# Altium integrated library OTHERTEST.IntLib: 66 symbols
Pins are listed as number, name and electrical type; pins without a type are passive.

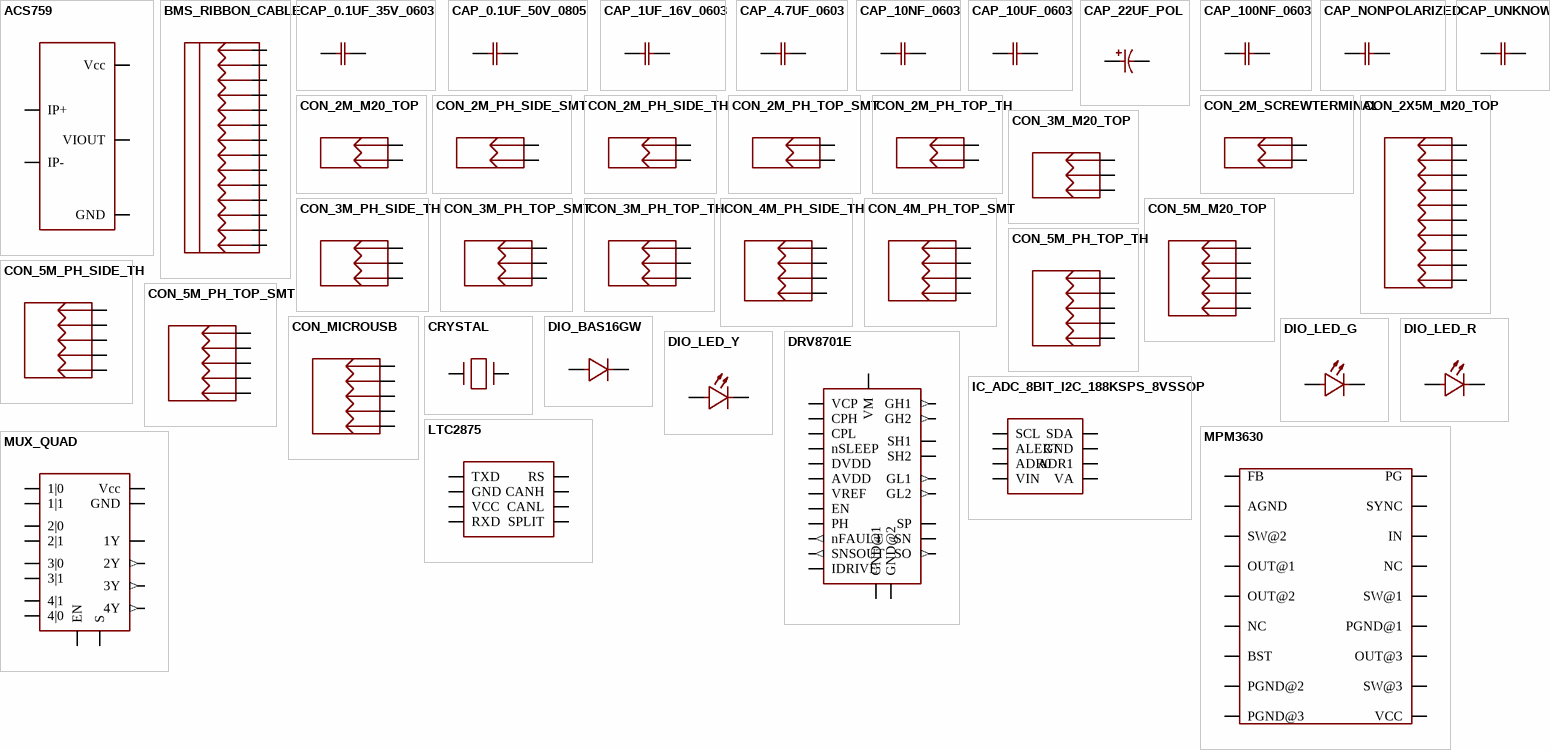
[diagram p0: symbols ACS759 to MUX_QUAD]

## ACS759
designator sensor?
GateName_1: PART_1; SymbolName_1: ACS759; LibraryName: OTHERTEST; DeviceSetName: ACS759; Package: ACS759; DATASHEET: www.allegromicro.com/~/media/Files/Datasheets/ACS759-Datasheet.ashx
footprint ACS759
pins: 1 Vcc, 2 GND, 3 VIOUT, 4 IP+, 5 IP-

## BMS_RIBBON_CABLE
designator ?
GateName_1: PART_1; SymbolName_1: BMS_RIBBON_CABLE; LibraryName: OTHERTEST; DeviceSetName: BMS_RIBBON_CABLE
pins: ?1 1, ?2 2, ?3 3, ?4 4, ?5 5, ?6 6, ?7 7, ?8 8, ?9 9, ?10 10, ?11 11, ?12 12, ?13 13, ?14 14

## CAP_0.1UF_35V_0603
designator C?
MANUFACTURER: Taiyo Yuden; MPN: GMK107B7104KAHT; GateName_1: PART_1; SymbolName_1: CAP_NONPOLARIZED; DeviceSetName: CAP_0.1UF_35V_0603; DESCRIPTION: Non-polarized; VOLTAGE: 35V; LibraryName: OTHERTEST; Package: CAP_0603_5
footprint CAP_0603_5
pins: 1, 2

## CAP_0.1UF_50V_0805
designator C?
MANUFACTURER: AVX Corporation; MPN: 08055F104K4T2A; GateName_1: PART_1; SymbolName_1: CAP_NONPOLARIZED; DeviceSetName: CAP_0.1UF_50V_0805; DESCRIPTION: Non-polarized; VOLTAGE: 50V; LibraryName: OTHERTEST; Package: CAP_0805; DATASHEET: https://www.digikey.ca/product-detail/en/avx-corporation/08055F104K4T2A/478-3614-1-ND/1024967
footprint CAP_0805
pins: 1, 2

## CAP_1UF_16V_0603
designator C?
MANUFACTURER: Yageo; MPN: CC0603ZRY5V7BB105; GateName_1: PART_1; SymbolName_1: CAP_NONPOLARIZED; DeviceSetName: CAP_1UF_16V_0603; DESCRIPTION: Non-polarized; LibraryName: OTHERTEST; Package: CAP_0603
footprint CAP_0603
pins: 1, 2

## CAP_4.7UF_0603
designator C?
MANUFACTURER: Yageo; MPN: CC0603KRX5R5BB475; GateName_1: PART_1; SymbolName_1: CAP_NONPOLARIZED; DeviceSetName: CAP_4.7UF_0603; DESCRIPTION: Non-polarized; LibraryName: OTHERTEST; Package: CAP_0603
footprint CAP_0603
pins: 1, 2

## CAP_10NF_0603
designator C?
MANUFACTURER: Yageo; MPN: CC0402KRX7R6BB103; GateName_1: PART_1; SymbolName_1: CAP_NONPOLARIZED; DeviceSetName: CAP_10NF_0603; DESCRIPTION: Non-polarized; LibraryName: OTHERTEST; Package: CAP_0603
footprint CAP_0603
pins: 1, 2

## CAP_10UF_0603
designator C?
MANUFACTURER: Yageo; GateName_1: PART_1; SymbolName_1: CAP_NONPOLARIZED; DeviceSetName: CAP_10UF_0603; DESCRIPTION: Non-polarized; LibraryName: OTHERTEST; Package: CAP_0603
footprint CAP_0603
pins: 1, 2

## CAP_22UF_POL
designator C?
MANUFACTURER: Wurth Electronics Inc; MPN: 860020672011; GateName_1: PART_1; SymbolName_1: CAP_22UF_POL; DESCRIPTION: Polarized; ATTR_1: Electrolytic; LibraryName: OTHERTEST; DeviceSetName: CAP_22UF_POL; Package: CAPPR-2/4h6.8; DATASHEET: http://katalog.we-online.de/pbs/datasheet/860020672011.pdf
footprint CAPPR-2/4h6.8
pins: 1 MINUS, 2 PLUS

## CAP_100NF_0603
designator C?
MANUFACTURER: Yageo; MPN: CC0603KRX7R7BB104; GateName_1: PART_1; SymbolName_1: CAP_NONPOLARIZED; DeviceSetName: CAP_100NF_0603; DESCRIPTION: Non-polarized; LibraryName: OTHERTEST; Package: CAP_0603
footprint CAP_0603
pins: 1, 2

## CAP_NONPOLARIZED
designator C?
GateName_1: PART_1; SymbolName_1: CAP_NONPOLARIZED; DESCRIPTION: Non-polarized; LibraryName: OTHERTEST; DeviceSetName: CAP_NONPOLARIZED
pins: ?1 1, ?2 2

## CAP_UNKNOWN
designator C?
GateName_1: PART_1; SymbolName_1: CAP_NONPOLARIZED; DeviceSetName: CAP_UNKNOWN; DESCRIPTION: Non-polarized; LibraryName: OTHERTEST
pins: ?1 1, ?2 2

## CON_2M_M20_TOP
designator J?
MANUFACTURER: Harwin; GateName_1: PART_1; SymbolName_1: CON_2M_PH_TOP_TH; DeviceSetName: CON_2M_M20_TOP; MGN: M20-9990546; LibraryName: OTHERTEST; Package: HDRF-1x2T/2.54/6x3; DATASHEET: https://cdn.harwin.com/pdfs/M20-999.pdf
footprint HDRF-1x2T/2.54/6x3
pins: 1, 2

## CON_2M_PH_SIDE_SMT
designator J?
MANUFACTURER: JST; GateName_1: PART_1; SymbolName_1: CON_2M_PH_TOP_TH; DeviceSetName: CON_2M_PH_SIDE_SMT; MGN: S2B-PH-SM4-TB; LibraryName: OTHERTEST; Package: JST-S2B-SM4-TB; DATASHEET: http://www.jst-mfg.com/product/pdf/eng/ePH.pdf
footprint JST-S2B-SM4-TB
pins: 1, 2

## CON_2M_PH_SIDE_TH
designator J?
MANUFACTURER: JST; GateName_1: PART_1; SymbolName_1: CON_2M_PH_TOP_TH; DeviceSetName: CON_2M_PH_SIDE_TH; MGN: S2B-PH-K-S; LibraryName: OTHERTEST; Package: JST-S2B-PHSK; DATASHEET: http://www.jst-mfg.com/product/pdf/eng/ePH.pdf
footprint JST-S2B-PHSK
pins: 1, 2

## CON_2M_PH_TOP_SMT
designator J?
MANUFACTURER: JST; GateName_1: PART_1; SymbolName_1: CON_2M_PH_TOP_TH; DeviceSetName: CON_2M_PH_TOP_SMT; MGN: B2B-PH-SM4-TB; LibraryName: OTHERTEST; Package: JST-B2B-SM4-TB; DATASHEET: http://www.jst-mfg.com/product/pdf/eng/ePH.pdf
footprint JST-B2B-SM4-TB
pins: 1, 2

## CON_2M_PH_TOP_TH
designator J?
MANUFACTURER: JST; GateName_1: PART_1; SymbolName_1: CON_2M_PH_TOP_TH; MGN: B2B-PH-K-S; LibraryName: OTHERTEST; DeviceSetName: CON_2M_PH_TOP_TH; Package: JST-B2B-PHSK; DATASHEET: http://www.jst-mfg.com/product/pdf/eng/ePH.pdf
footprint JST-B2B-PHSK
pins: 1, 2

## CON_2M_SCREWTERMINAL
designator J?
MANUFACTURER: On Shore Technology Inc; GateName_1: PART_1; SymbolName_1: CON_2M_PH_TOP_TH; DeviceSetName: CON_2M_SCREWTERMINAL; MGN: OSTYK51102030; MAX CURRENT: 30A; LibraryName: OTHERTEST; Package: OSTYK51102030; DATASHEET: http://www.on-shore.com/wp-content/uploads/2015/09/ostyk511xx030.pdf
footprint OSTYK51102030
pins: 1, 2

## CON_2X5M_M20_TOP
designator J?
GateName_1: PART_1; SymbolName_1: CON_2X5M_M20_TOP; LibraryName: OTHERTEST; DeviceSetName: CON_2X5M_M20_TOP; Package: HDRF-2x5T/2.54x2.54/13x5
footprint HDRF-2x5T/2.54x2.54/13x5
pins: 1, 2, 3, 4, 5, 6, 7, 8, 9, 10

## CON_3M_M20_TOP
designator J?
MANUFACTURER: Harwin; GateName_1: PART_1; SymbolName_1: CON_3M_PH_TOP_TH; DeviceSetName: CON_3M_M20_TOP; MGN: M20-9990546; LibraryName: OTHERTEST; Package: HDRF-1x3T/2.54/8x3; DATASHEET: https://cdn.harwin.com/pdfs/M20-999.pdf
footprint HDRF-1x3T/2.54/8x3
pins: 1, 2, 3

## CON_3M_PH_SIDE_TH
designator J?
MANUFACTURER: JST; GateName_1: PART_1; SymbolName_1: CON_3M_PH_TOP_TH; DeviceSetName: CON_3M_PH_SIDE_TH; MGN: S3B-PH-K-S; LibraryName: OTHERTEST; Package: JST-S3B-PHSK; DATASHEET: http://www.jst-mfg.com/product/pdf/eng/ePH.pdf
footprint JST-S3B-PHSK
pins: 1, 2, 3

## CON_3M_PH_TOP_SMT
designator J?
MANUFACTURER: JST; GateName_1: PART_1; SymbolName_1: CON_3M_PH_TOP_TH; DeviceSetName: CON_3M_PH_TOP_SMT; MGN: B3B-PH-SM4-TB; LibraryName: OTHERTEST; Package: JST-B3B-SM4-TB; DATASHEET: http://www.jst-mfg.com/product/pdf/eng/ePH.pdf
footprint JST-B3B-SM4-TB
pins: 1, 2, 3

## CON_3M_PH_TOP_TH
designator J?
MANUFACTURER: JST; GateName_1: PART_1; SymbolName_1: CON_3M_PH_TOP_TH; MGN: B3B-PH-K-S; LibraryName: OTHERTEST; DeviceSetName: CON_3M_PH_TOP_TH; Package: JST-B3B-PHSK; DATASHEET: http://www.jst-mfg.com/product/pdf/eng/ePH.pdf
footprint JST-B3B-PHSK
pins: 1, 2, 3

## CON_4M_PH_SIDE_TH
designator J?
MANUFACTURER: JST; GateName_1: PART_1; SymbolName_1: CON_4M_PH_TOP_SMT; DeviceSetName: CON_4M_PH_SIDE_TH; MGN: S4B-PH-K-S; LibraryName: OTHERTEST; Package: JST-S4B-PHSK; DATASHEET: http://www.jst-mfg.com/product/pdf/eng/ePH.pdf
footprint JST-S4B-PHSK
pins: 1, 2, 3, 4

## CON_4M_PH_TOP_SMT
designator J?
MANUFACTURER: JST; GateName_1: PART_1; SymbolName_1: CON_4M_PH_TOP_SMT; MGN: B4B-PH-SM4-TB; LibraryName: OTHERTEST; DeviceSetName: CON_4M_PH_TOP_SMT; Package: JST-B4B-SM4-TB; DATASHEET: http://www.jst-mfg.com/product/pdf/eng/ePH.pdf
footprint JST-B4B-SM4-TB
pins: 1, 2, 3, 4

## CON_5M_M20_TOP
designator J?
MANUFACTURER: Harwin; GateName_1: PART_1; SymbolName_1: CON_5M_PH_TOP_TH; DeviceSetName: CON_5M_M20_TOP; MGN: M20-9990546; LibraryName: OTHERTEST; Package: HDRF-1x5T/2.54/13x3; DATASHEET: https://cdn.harwin.com/pdfs/M20-999.pdf
footprint HDRF-1x5T/2.54/13x3
pins: 1, 2, 3, 4, 5

## CON_5M_PH_SIDE_TH
designator J?
MANUFACTURER: JST; GateName_1: PART_1; SymbolName_1: CON_5M_PH_TOP_TH; DeviceSetName: CON_5M_PH_SIDE_TH; MGN: S5B-PH-K-S; LibraryName: OTHERTEST; Package: JST-S5B-PHSK; DATASHEET: http://www.jst-mfg.com/product/pdf/eng/ePH.pdf
footprint JST-S5B-PHSK
pins: 1, 2, 3, 4, 5

## CON_5M_PH_TOP_SMT
designator J?
MANUFACTURER: JST; GateName_1: PART_1; SymbolName_1: CON_5M_PH_TOP_TH; DeviceSetName: CON_5M_PH_TOP_SMT; MGN: B5B-PH-SM4-TB; LibraryName: OTHERTEST; Package: JST-B5B-SM4-TB; DATASHEET: http://www.jst-mfg.com/product/pdf/eng/ePH.pdf
footprint JST-B5B-SM4-TB
pins: 1, 2, 3, 4, 5

## CON_5M_PH_TOP_TH
designator J?
MANUFACTURER: JST; GateName_1: PART_1; SymbolName_1: CON_5M_PH_TOP_TH; MGN: B5B-PH-K-S; LibraryName: OTHERTEST; DeviceSetName: CON_5M_PH_TOP_TH; Package: JST-B5B-PHSK; DATASHEET: http://www.jst-mfg.com/product/pdf/eng/ePH.pdf
footprint JST-B5B-PHSK
pins: 1, 2, 3, 4, 5

## CON_MICROUSB
designator J?
MANUFACTURER: SODIAL; GateName_1: PART_1; SymbolName_1: CON_5M_PH_TOP_TH; DeviceSetName: CON_MICROUSB; LibraryName: OTHERTEST; Package: ZX62-B-5P
footprint ZX62-B-5P
pins: 1, 2, 3, 4, 5

## CRYSTAL
designator Y?
GateName_1: PART_1; SymbolName_1: CRYSTAL; LibraryName: OTHERTEST; DeviceSetName: CRYSTAL; Package: Crystal(CX2520DB); DESCRIPTION: Crystal
footprint Crystal(CX2520DB)
pins: 2, 3 1

## DIO_BAS16GW
designator D?
MANUFACTURER: Nexperia; MPN: BAS16GW; GateName_1: PART_1; SymbolName_1: DIO_BAS16GW; LibraryName: OTHERTEST; DeviceSetName: DIO_BAS16GW; Package: SOD-123; DATASHEET: https://assets.nexperia.com/documents/data-sheet/BAS16GW.pdf
footprint SOD-123
pins: 1 K, 2 A

## DIO_LED_G
designator D?
MANUFACTURER: OSRAM; MPN: LG R971-KN-1; GateName_1: PART_1; SymbolName_1: DIO_LED_R; DeviceSetName: DIO_LED_G; DESCRIPTION: LED; LibraryName: OTHERTEST; Package: RES_0805
footprint RES_0805
pins: 1 A, 2 K

## DIO_LED_R
designator D?
MANUFACTURER: OSRAM; MPN: LS R976-NR-1; GateName_1: PART_1; SymbolName_1: DIO_LED_R; DESCRIPTION: LED; LibraryName: OTHERTEST; DeviceSetName: DIO_LED_R; Package: RES_0805
footprint RES_0805
pins: 1 A, 2 K

## DIO_LED_Y
designator D?
MANUFACTURER: OSRAM; MPN: LY R976-PS-36; GateName_1: PART_1; SymbolName_1: DIO_LED_R; DeviceSetName: DIO_LED_Y; DESCRIPTION: LED; LibraryName: OTHERTEST; Package: RES_0805
footprint RES_0805
pins: 1 A, 2 K

## DRV8701E
designator U?
GateName_1: PART_1; SymbolName_1: DRV8701E; LibraryName: OTHERTEST; DeviceSetName: DRV8701E; Package: QFN-24RV/4x4x0.5
footprint QFN-24RV/4x4x0.5
pins: 1 VM (power), 2 VCP (power), 3 CPH (power), 4 CPL (power), 5 GND@1 (power), 6 VREF, 7 AVDD (power), 8 DVDD (power), 9 nFAULT (out), 10 SNSOUT (out), 11 SO (out), 12 IDRIVE, 13 nSLEEP, 14 EN, 15 PH, 16 GND@2 (power), 17 GH1 (out), 18 SH1, 19 GL1 (out), 20 SN, 21 SP, 22 GL2 (out), 23 SH2, 24 GH2 (out)

## IC_ADC_8BIT_I2C_188KSPS_8VSSOP
designator ?
GateName_1: PART_1; SymbolName_1: IC_ADC_8BIT_I2C_188KSPS_8VSSOP; LibraryName: OTHERTEST; DeviceSetName: IC_ADC_8BIT_I2C_188KSPS_8VSSOP; Package: IC_ADC_8BIT_I2C_188KSPS_8VSSOP
footprint IC_ADC_8BIT_I2C_188KSPS_8VSSOP
pins: 1 SCL, 2 ALERT, 3 ADR0, 4 VIN, 5 VA, 6 ADR1, 7 GND, 8 SDA

## LTC2875
designator U?
MANUFACTURER: Linear Technologies; GateName_1: PART_1; SymbolName_1: LTC2875; LibraryName: OTHERTEST; DeviceSetName: LTC2875; Package: LTC2875F
footprint LTC2875F
pins: 1 TXD, 2 GND, 3 VCC, 4 RXD, 5 SPLIT, 6 CANL, 7 CANH, 8 RS

## MPM3630
designator U?
MANUFACTURER: MPS; GateName_1: PART_1; SymbolName_1: MPM3630; LibraryName: OTHERTEST; DeviceSetName: MPM3630; Package: MPM3630; DATASHEET: https://www.monolithicpower.com/DesktopModules/DocumentManage/API/Document/GetDocument?id=4863
footprint MPM3630
pins: 1 FB, 2 VCC, 3 AGND, 4 SW@1, 5 SW@2, 6 SW@3, 7 OUT@1, 8 OUT@2, 9 OUT@3, 10 NC, 10 NC, 11 BST, 12 PGND@1, 13 PGND@2, 14 PGND@3, 16 IN, 17 SYNC, 18 PG

## MUX_QUAD
designator U?
MANUFACTURER: Nexperia; MPN: 74LVC157A; GateName_1: PART_1; SymbolName_1: MUX_QUAD; LibraryName: OTHERTEST; DeviceSetName: MUX_QUAD; Package: TSSOP-16; DATASHEET: https://assets.nexperia.com/documents/data-sheet/74LVC157A.pdf
footprint TSSOP-16
pins: 1 S, 2 1|0, 3 1|1, 4 1Y, 5 2|0, 6 2|1, 7 2Y (out), 8 GND (power), 9 3Y (out), 10 3|1, 11 3|0, 12 4Y (out), 13 4|1, 14 4|0, 15 EN, 16 Vcc (power)

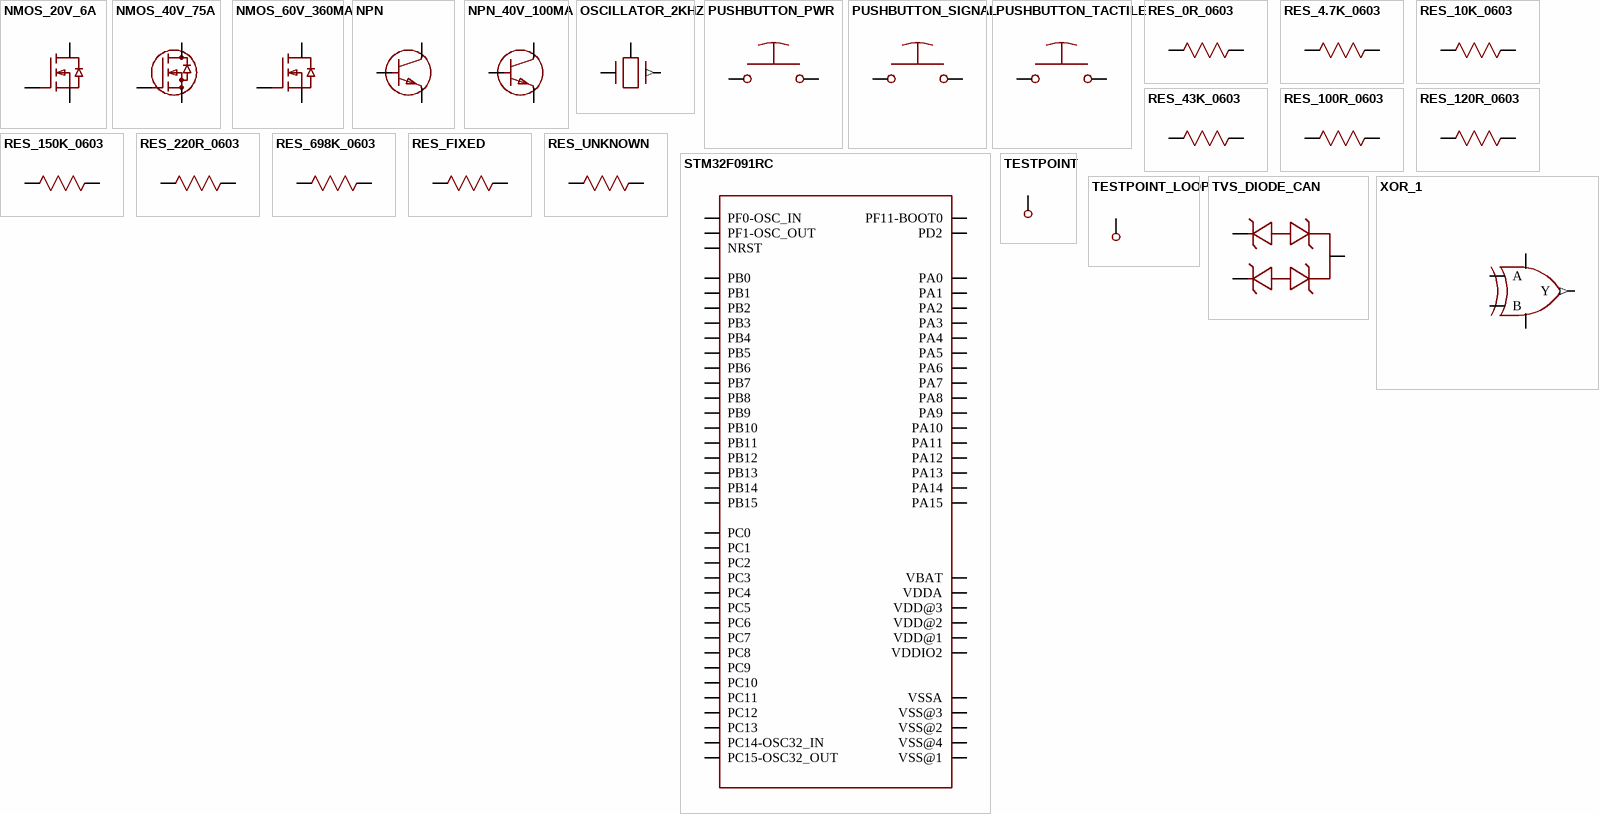
[diagram p1: symbols NMOS_20V_6A to XOR_1]

## NMOS_20V_6A
designator Q?
MANUFACTURER: Alpha & Omega; MPN: AO3420; GateName_1: PART_1; SymbolName_1: NMOS_20V_6A; DESCRIPTION: MOSFET; ATTR_1: Enhancement Mode; ATTR_2: N-Channel; ATTR_3: Single-Gate; ATTR_4: with Diode; LibraryName: OTHERTEST; DeviceSetName: NMOS_20V_6A; Package: AO3420_SOT23; DATASHEET: http://aosmd.com/res/data_sheets/AO3420.pdf
footprint AO3420_SOT23
pins: 1 G, 2 S, 3 D

## NMOS_40V_75A
designator Q?
MANUFACTURER: Nexperia; MPN: BUK768R1-40E; GateName_1: PART_1; SymbolName_1: NMOS_40V_75A; LibraryName: OTHERTEST; DeviceSetName: NMOS_40V_75A; Package: D2Pak_nexperia; DATASHEET: https://assets.nexperia.com/documents/data-sheet/BUK765R3-40E.pdf
footprint D2Pak_nexperia
pins: 1 G, 2 D, 3 S

## NMOS_60V_360MA
designator Q?
MANUFACTURER: Nexperia; MPN: 2N7002P,215; GateName_1: PART_1; SymbolName_1: NMOS_20V_6A; DeviceSetName: NMOS_60V_360MA; DESCRIPTION: MOSFET; ATTR_1: Enhancement Mode; ATTR_2: N-Channel; ATTR_3: Single-Gate; ATTR_4: with Diode; LibraryName: OTHERTEST; Package: SOT23; DATASHEET: https://assets.nexperia.com/documents/data-sheet/2N7002P.pdf
footprint SOT23
pins: 1 G, 2 S, 3 D

## NONE
designator ?
GateName_1: PART_1; SymbolName_1: NONE; LibraryName: OTHERTEST; DeviceSetName: NONE

## NPN
designator Q?
GateName_1: PART_1; SymbolName_1: NPN; LibraryName: OTHERTEST; DeviceSetName: NPN; Package: SOT23
footprint SOT23
pins: 1 B, 2 E, 3 C

## NPN_40V_100MA
designator Q?
MANUFACTURER: Micro Commercial Co; MPN: MMBT3904-TP; GateName_1: PART_1; SymbolName_1: NPN; DeviceSetName: NPN_40V_100MA; LibraryName: OTHERTEST; Package: SOT23; DATASHEET: http://www.mccsemi.com/up_pdf/MMBT3904(SOT-23).pdf
footprint SOT23
pins: 1 B, 2 E, 3 C

## OSCILLATOR_2KHZ
designator Y?
MANUFACTURER: Microchip Technology; MPN: DSC6083CI2A-002K000; GateName_1: PART_1; SymbolName_1: OSCILLATOR_2KHZ; LibraryName: OTHERTEST; DeviceSetName: OSCILLATOR_2KHZ; Package: 4_lead_CDFN3225; DATASHEET: http://ww1.microchip.com/downloads/en/DeviceDoc/20005625B.pdf
footprint 4_lead_CDFN3225
pins: 1 OUT (out), 2 GND (power), 4 VDD (power)

## PUSHBUTTON_PWR
designator SW?
MANUFACTURER: TE; MPN: PTS645SK43SMTR92 LFS / PTS645SK43SMTR92 LFS / PTS645SK43SMTR92 LFS; GateName_1: PART_1; SymbolName_1: PUSHBUTTON_PWR; DESCRIPTION: Pushbutton; ATTR_1: Normally Open; LibraryName: OTHERTEST; DeviceSetName: PUSHBUTTON_PWR; Package: PUSHBUTTON_PWR_(FSM2JSMAA)
footprint PUSHBUTTON_PWR_(FSM2JSMAA)
pins: 1 C1, 4 C2

## PUSHBUTTON_SIGNAL
designator SW?
MANUFACTURER: C&K; MPN: KXT 311 LHS; GateName_1: PART_1; SymbolName_1: PUSHBUTTON_PWR; DeviceSetName: PUSHBUTTON_SIGNAL; DESCRIPTION: Pushbutton; ATTR_1: Normally Open; LibraryName: OTHERTEST; Package: PUSHBUTTON_SIGNAL_(KXT_311_LHS)
footprint PUSHBUTTON_SIGNAL_(KXT_311_LHS)
pins: 1 C1, 2 C2

## PUSHBUTTON_TACTILE
designator SW?
MANUFACTURER: C&K; MPN: RS-282G05A3-SM RT; GateName_1: PART_1; SymbolName_1: PUSHBUTTON_PWR; DeviceSetName: PUSHBUTTON_TACTILE; DESCRIPTION: Pushbutton; ATTR_1: Normally Open; LibraryName: OTHERTEST; Package: PUSHBUTTON_RECTANGLE
footprint PUSHBUTTON_RECTANGLE
pins: 1 C1, 2 C2

## RES_0R_0603
designator R?
MANUFACTURER: Yageo; MPN: RC0603JR-070RL; GateName_1: PART_1; SymbolName_1: RES_FIXED; DeviceSetName: RES_0R_0603; DESCRIPTION: Fixed Resistor; LibraryName: OTHERTEST; Package: RES_0603
footprint RES_0603
pins: 1, 2

## RES_4.7K_0603
designator R?
MANUFACTURER: Yageo; MPN: RC0603JR-074K7L; GateName_1: PART_1; SymbolName_1: RES_FIXED; DeviceSetName: RES_4.7K_0603; DESCRIPTION: Fixed Resistor; LibraryName: OTHERTEST; Package: RES_0603
footprint RES_0603
pins: 1, 2

## RES_10K_0603
designator R?
MANUFACTURER: Yageo; MPN: RC0603JR-0710KL; GateName_1: PART_1; SymbolName_1: RES_FIXED; DeviceSetName: RES_10K_0603; DESCRIPTION: Fixed Resistor; LibraryName: OTHERTEST; Package: RES_0603
footprint RES_0603
pins: 1, 2

## RES_43K_0603
designator R?
MANUFACTURER: Yageo; MPN: RC0603JR-0743KL; GateName_1: PART_1; SymbolName_1: RES_FIXED; DeviceSetName: RES_43K_0603; DESCRIPTION: Fixed Resistor; LibraryName: OTHERTEST; Package: RES_0603; DATASHEET: https://medhttp://www.yageo.com/documents/recent/PYu-RC_Group_51_RoHS_L_8.pdf
footprint RES_0603
pins: 1, 2

## RES_100R_0603
designator R?
MANUFACTURER: Yageo; MPN: RC0603FR-07100RL; GateName_1: PART_1; SymbolName_1: RES_FIXED; DeviceSetName: RES_100R_0603; DESCRIPTION: Fixed Resistor; LibraryName: OTHERTEST; Package: RES_0603
footprint RES_0603
pins: 1, 2

## RES_120R_0603
designator R?
MANUFACTURER: Yageo; MPN: RC0603JR-07120RL; GateName_1: PART_1; SymbolName_1: RES_FIXED; DeviceSetName: RES_120R_0603; DESCRIPTION: Fixed Resistor; LibraryName: OTHERTEST; Package: RES_0603
footprint RES_0603
pins: 1, 2

## RES_150K_0603
designator R?
MANUFACTURER: Yageo; MPN: RC0603JR-07150KL; GateName_1: PART_1; SymbolName_1: RES_FIXED; DeviceSetName: RES_150K_0603; DESCRIPTION: Fixed Resistor; LibraryName: OTHERTEST; Package: RES_0603; DATASHEET: http://www.yageo.com/documents/recent/PYu-RC_Group_51_RoHS_L_8.pdf
footprint RES_0603
pins: 1, 2

## RES_220R_0603
designator R?
GateName_1: PART_1; SymbolName_1: RES_FIXED; DeviceSetName: RES_220R_0603; LibraryName: OTHERTEST; Package: RES_0603
footprint RES_0603
pins: 1 2, 2 1

## RES_698K_0603
designator R?
MANUFACTURER: Yageo; MPN: RC0603FR-07698KL; GateName_1: PART_1; SymbolName_1: RES_FIXED; DeviceSetName: RES_698K_0603; DESCRIPTION: Fixed Resistor; LibraryName: OTHERTEST; Package: RES_0603; DATASHEET: http://www.yageo.com/documents/recent/PYu-RC_Group_51_RoHS_L_8.pdf
footprint RES_0603
pins: 1, 2

## RES_FIXED
designator R?
GateName_1: PART_1; SymbolName_1: RES_FIXED; DESCRIPTION: Fixed Resistor; LibraryName: OTHERTEST; DeviceSetName: RES_FIXED
pins: ?1 2, ?2 1

## RES_UNKNOWN
designator R?
GateName_1: PART_1; SymbolName_1: RES_FIXED; DeviceSetName: RES_UNKNOWN; DESCRIPTION: Fixed Resistor; LibraryName: OTHERTEST
pins: ?1 2, ?2 1

## STM32F091RC
designator U1?
MANUFACTURER: ST; GateName_1: PART_1; SymbolName_1: STM32F091RC; LibraryName: OTHERTEST; DeviceSetName: STM32F091RC; Package: STM32F091; DATASHEET: http://www.st.com/content/ccc/resource/technical/document/datasheet/95/3c/2e/5b/21/09/45/a6/DM00115237.pdf/files/DM00115237.pdf/jcr:content/translations/en.DM00115237.pdf#%5B%7B%22num%22%3A96%2C%22gen%22%3A0%7D%2C%7B%22name%22%3A%22XYZ%22%7D%2C67%2C755%2Cnull%5D
footprint STM32F091
pins: 1 VBAT, 2 PC13, 3 PC14-OSC32_IN, 4 PC15-OSC32_OUT, 5 PF0-OSC_IN, 6 PF1-OSC_OUT, 7 NRST, 8 PC0, 9 PC1, 10 PC2, 11 PC3, 12 VSSA, 13 VDDA, 14 PA0, 15 PA1, 16 PA2, 17 PA3, 18 VSS@1, 19 VDD@1, 20 PA4, 21 PA5, 22 PA6, 23 PA7, 24 PC4, 25 PC5, 26 PB0, 27 PB1, 28 PB2, 29 PB10, 30 PB11, 31 VSS@2, 32 VDD@2, 33 PB12, 34 PB13, 35 PB14, 36 PB15, 37 PC6, 38 PC7, 39 PC8, 40 PC9, 41 PA8, 42 PA9, 43 PA10, 44 PA11, 45 PA12, 46 PA13, 47 VSS@3, 48 VDDIO2, 49 PA14, 50 PA15, 51 PC10, 52 PC11, 53 PC12, 54 PD2, 55 PB3, 56 PB4, 57 PB5, 58 PB6, 59 PB7, 60 PF11-BOOT0, 61 PB8, 62 PB9, 63 VSS@4, 64 VDD@3

## TESTPOINT
designator TP?
GateName_1: PART_1; SymbolName_1: TESTPOINT; LibraryName: OTHERTEST; DeviceSetName: TESTPOINT; Package: TESTPAD_1.5mm
footprint TESTPAD_1.5mm
pins: 1

## TESTPOINT_LOOP
designator TP?
MANUFACTURER: Keystone; GateName_1: PART_1; SymbolName_1: TESTPOINT; DeviceSetName: TESTPOINT_LOOP; LibraryName: OTHERTEST; Package: TESTPOINT_THM; DATASHEET: https://www.keyelco.com/userAssets/file/M65p56.pdf; DIGI-KEY PART NUMBER: 36-5002-ND; SERIES: THM
footprint TESTPOINT_THM
pins: 1

## TVS_DIODE_CAN
designator D?
MANUFACTURER: Nexperia USA Inc.; MPN: PESD1CAN-UX; GateName_1: PART_1; SymbolName_1: TVS_DIODE_CAN; LibraryName: OTHERTEST; DeviceSetName: TVS_DIODE_CAN; Package: SOT323
footprint SOT323
pins: 1, 2, 3

## XOR_1
designator U?
MANUFACTURER: Diodes Incorporated; GateName_1: PART_1; SymbolName_1: XOR_1; LibraryName: OTHERTEST; DeviceSetName: XOR_1; Package: SOT353; DATASHEET: https://www.diodes.com/assets/Datasheets/74Ahttps://assets.nexperia.com/documents/data-sheet/74AHC_AHCT1G86.pdfHC1G86.pdf
footprint SOT353
pins: 1 A, 2 B, 3 GND (power), 4 Y (out), 5 VCC (power)